# Altium footprint library SLW-883935-2A-D.PcbLib: 1 footprints
Each footprint in its own frame and in the unit in brackets; x right, y up, seen from the top. Pads: shape width x height; smd on the part's side, far side on the other; paste and mask are expansions set on the pad; w line width, h text height; cw(c..) or ccw(c..) is an arc to the next point about the centre after c.
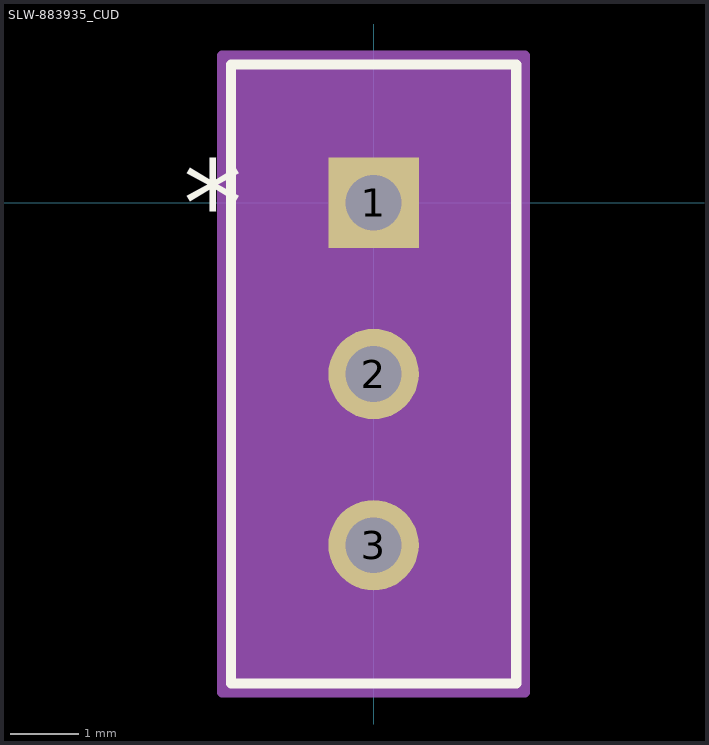
[diagram p0: the footprint, top view; thin cyan lines are the x and y axes]

## SLW-883935_CUD [mil]
pads (3):
  rect 52x52 / inner round 60 / far side rect 52x52 hole 32 paste-26 mask+0: 1(0,0)
  round 52 / inner round 60 / far side round 52 hole 32 paste-26 mask+0: 2(0,-98.43) 3(0,-196.85)
Top Overlay:
  lines w6: -82,-276.43 82,-276.43 82,79.57 -82,79.57 -82,-276.43
  text "*" at -109.5,-25 h50
Mechanical 13:
  region: 29.5,-167.32 -29.5,-167.32 -29.5,-98.43 29.5,-98.43
  lines w1: -77,-271.43 77,-271.43 77,74.57 -77,74.57 -77,-271.43 ; -29.5,-167.32 -29.5,-29.53 29.5,-29.53 29.5,-167.32 -29.5,-167.32
  text "*" at -74.5,-25 h50
Mechanical 15:
  region: 87,-281.43 -87,-281.43 -87,84.57 87,84.57
  lines w6: -87,-281.43 87,-281.43 87,84.57 -87,84.57 -87,-281.43